# Altium integrated library Dallas Power Mgt Supervisory Circuit.IntLib: 79 symbols (part 1 of 2)
Pins are listed as number, name and electrical type; pins without a type are passive.

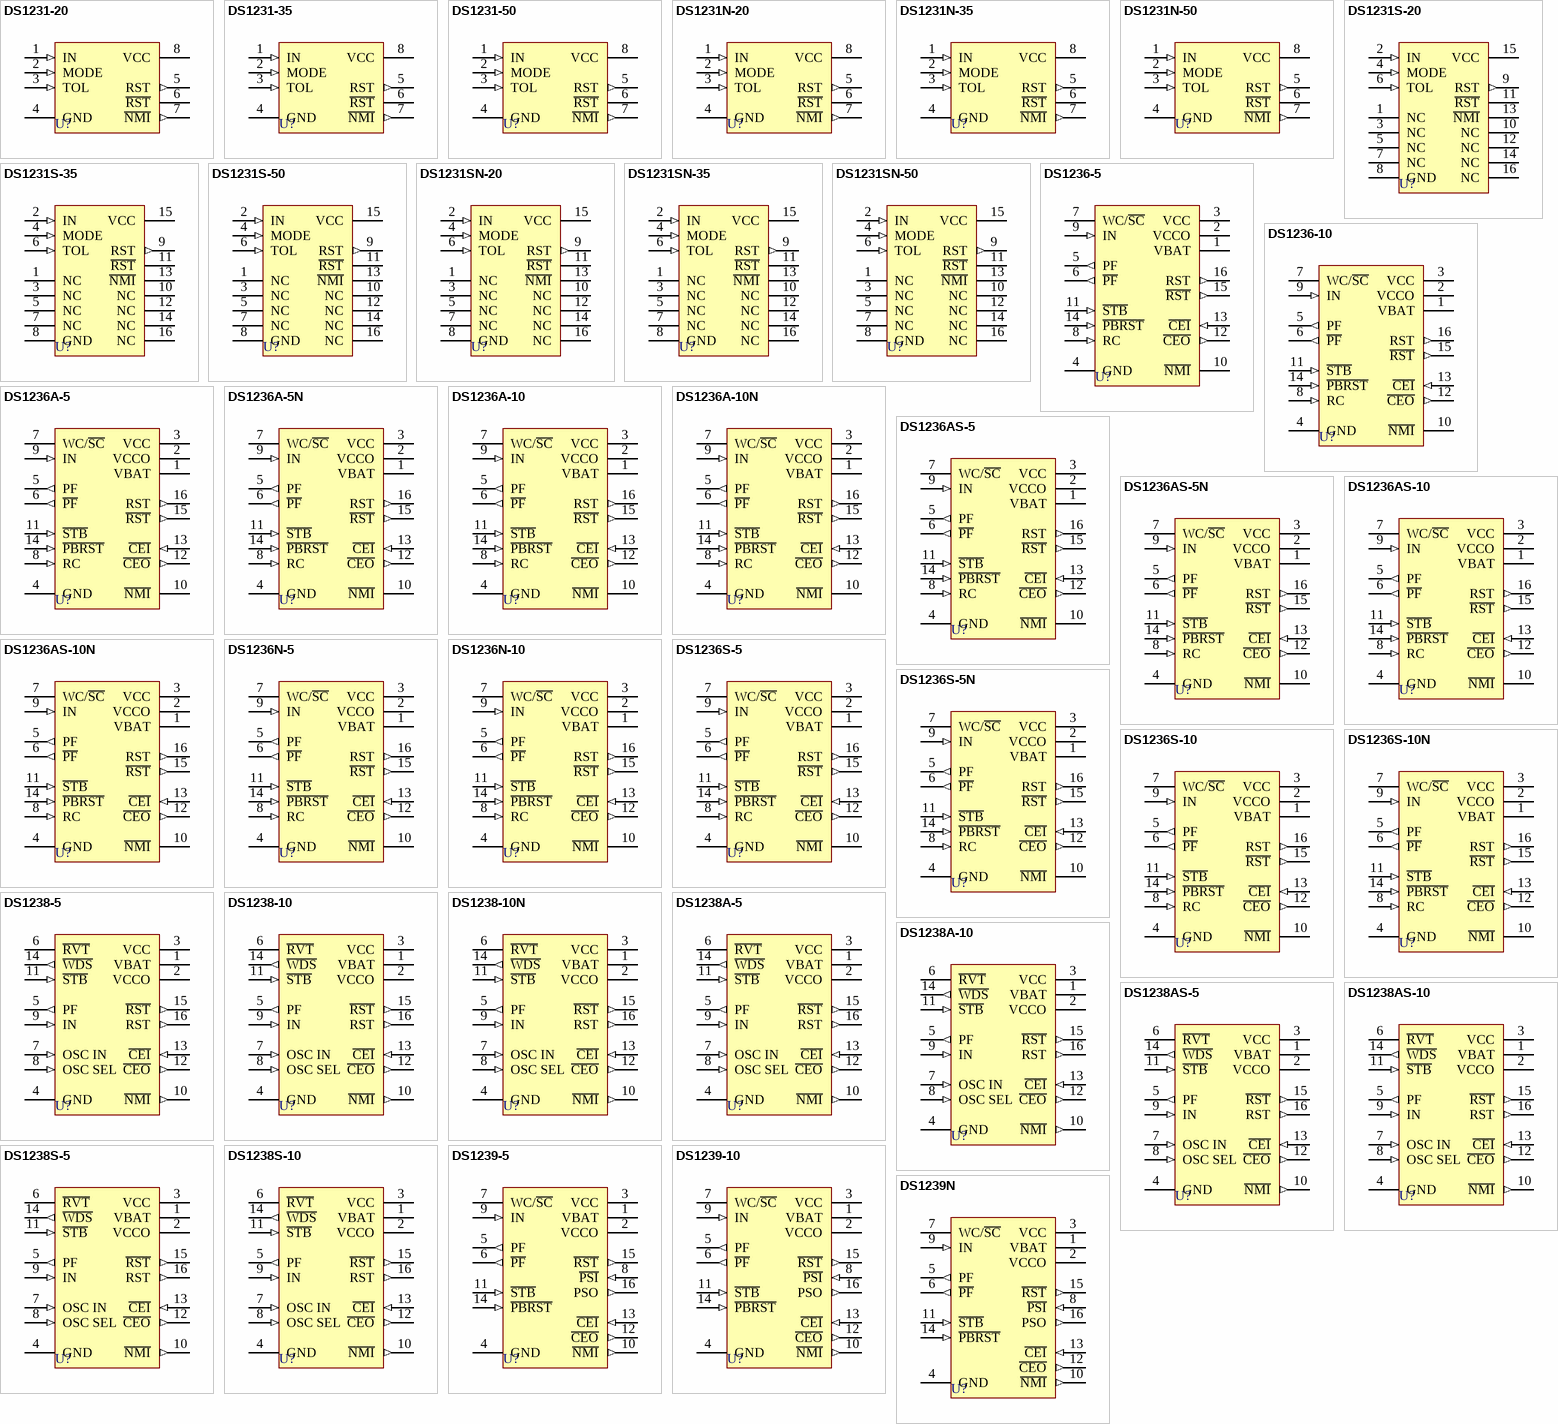
[diagram p0: symbols DS1231-20 to DS1239N]

## DS1231-20
designator U?
Power Monitor Chip; Published: 13-Oct-2000; LatestRevisionDate: 06-Jun-2005; LatestRevisionNote: Stylized 3D Model Added.; DatasheetVersion: 26-Feb-1998; PackageVersion: 1999; PackageReference: DIP8; Publisher: Altium Limited; PackageDescription: DIP; 8 Leads; Row Spacing 7.62 mm; Pitch 2.54 mm; ComponentLink1Description: Manufacturer Link; ComponentLink1URL: http://www.maxim-ic.com/; ComponentLink2Description: Datasheet; ComponentLink2URL: http://www.maxim-ic.com/getds.cfm?qv_pk=2649&ln=en
footprint DIP8 (DIP; 8 Leads; Row Spacing 7.62 mm; Pitch 2.54 mm)
3D model DIP8 (DIP; 8 Leads; Row Spacing 7.62 mm; Pitch 2.54 mm)
pins: 1 IN (in), 2 MODE (in), 3 TOL (in), 4 GND (power), 5 RST (out), 6 ~{RST} (oc), 7 ~{NMI} (out), 8 VCC (power)

## DS1231-35
designator U?
Power Monitor Chip; Published: 13-Oct-2000; LatestRevisionDate: 06-Jun-2005; LatestRevisionNote: Stylized 3D Model Added.; DatasheetVersion: 26-Feb-1998; PackageVersion: 1999; PackageReference: DIP8; Publisher: Altium Limited; PackageDescription: DIP; 8 Leads; Row Spacing 7.62 mm; Pitch 2.54 mm; ComponentLink1Description: Manufacturer Link; ComponentLink1URL: http://www.maxim-ic.com/; ComponentLink2Description: Datasheet; ComponentLink2URL: http://www.maxim-ic.com/getds.cfm?qv_pk=2649&ln=en
footprint DIP8 (DIP; 8 Leads; Row Spacing 7.62 mm; Pitch 2.54 mm)
3D model DIP8 (DIP; 8 Leads; Row Spacing 7.62 mm; Pitch 2.54 mm)
pins: 1 IN (in), 2 MODE (in), 3 TOL (in), 4 GND (power), 5 RST (out), 6 ~{RST} (oc), 7 ~{NMI} (out), 8 VCC (power)

## DS1231-50
designator U?
Power Monitor Chip; Published: 13-Oct-2000; LatestRevisionDate: 06-Jun-2005; LatestRevisionNote: Stylized 3D Model Added.; DatasheetVersion: 26-Feb-1998; PackageVersion: 1999; PackageReference: DIP8; Publisher: Altium Limited; PackageDescription: DIP; 8 Leads; Row Spacing 7.62 mm; Pitch 2.54 mm; ComponentLink1Description: Manufacturer Link; ComponentLink1URL: http://www.maxim-ic.com/; ComponentLink2Description: Datasheet; ComponentLink2URL: http://www.maxim-ic.com/getds.cfm?qv_pk=2649&ln=en
footprint DIP8 (DIP; 8 Leads; Row Spacing 7.62 mm; Pitch 2.54 mm)
3D model DIP8 (DIP; 8 Leads; Row Spacing 7.62 mm; Pitch 2.54 mm)
pins: 1 IN (in), 2 MODE (in), 3 TOL (in), 4 GND (power), 5 RST (out), 6 ~{RST} (oc), 7 ~{NMI} (out), 8 VCC (power)

## DS1231N-20
designator U?
Power Monitor Chip; Published: 13-Oct-2000; LatestRevisionDate: 06-Jun-2005; LatestRevisionNote: Stylized 3D Model Added.; DatasheetVersion: 26-Feb-1998; PackageVersion: 1999; PackageReference: DIP8; Publisher: Altium Limited; PackageDescription: DIP; 8 Leads; Row Spacing 7.62 mm; Pitch 2.54 mm; ComponentLink1Description: Manufacturer Link; ComponentLink1URL: http://www.maxim-ic.com/; ComponentLink2Description: Datasheet; ComponentLink2URL: http://www.maxim-ic.com/getds.cfm?qv_pk=2649&ln=en
footprint DIP8 (DIP; 8 Leads; Row Spacing 7.62 mm; Pitch 2.54 mm)
3D model DIP8 (DIP; 8 Leads; Row Spacing 7.62 mm; Pitch 2.54 mm)
pins: 1 IN (in), 2 MODE (in), 3 TOL (in), 4 GND (power), 5 RST (out), 6 ~{RST} (oc), 7 ~{NMI} (out), 8 VCC (power)

## DS1231N-35
designator U?
Power Monitor Chip; Published: 13-Oct-2000; LatestRevisionDate: 06-Jun-2005; LatestRevisionNote: Stylized 3D Model Added.; DatasheetVersion: 26-Feb-1998; PackageVersion: 1999; PackageReference: DIP8; Publisher: Altium Limited; PackageDescription: DIP; 8 Leads; Row Spacing 7.62 mm; Pitch 2.54 mm; ComponentLink1Description: Manufacturer Link; ComponentLink1URL: http://www.maxim-ic.com/; ComponentLink2Description: Datasheet; ComponentLink2URL: http://www.maxim-ic.com/getds.cfm?qv_pk=2649&ln=en
footprint DIP8 (DIP; 8 Leads; Row Spacing 7.62 mm; Pitch 2.54 mm)
3D model DIP8 (DIP; 8 Leads; Row Spacing 7.62 mm; Pitch 2.54 mm)
pins: 1 IN (in), 2 MODE (in), 3 TOL (in), 4 GND (power), 5 RST (out), 6 ~{RST} (oc), 7 ~{NMI} (out), 8 VCC (power)

## DS1231N-50
designator U?
Power Monitor Chip; Published: 13-Oct-2000; LatestRevisionDate: 06-Jun-2005; LatestRevisionNote: Stylized 3D Model Added.; DatasheetVersion: 26-Feb-1998; PackageVersion: 1999; PackageReference: DIP8; Publisher: Altium Limited; PackageDescription: DIP; 8 Leads; Row Spacing 7.62 mm; Pitch 2.54 mm; ComponentLink1Description: Manufacturer Link; ComponentLink1URL: http://www.maxim-ic.com/; ComponentLink2Description: Datasheet; ComponentLink2URL: http://www.maxim-ic.com/getds.cfm?qv_pk=2649&ln=en
footprint DIP8 (DIP; 8 Leads; Row Spacing 7.62 mm; Pitch 2.54 mm)
3D model DIP8 (DIP; 8 Leads; Row Spacing 7.62 mm; Pitch 2.54 mm)
pins: 1 IN (in), 2 MODE (in), 3 TOL (in), 4 GND (power), 5 RST (out), 6 ~{RST} (oc), 7 ~{NMI} (out), 8 VCC (power)

## DS1231S-20
designator U?
Power Monitor Chip; Note: Pin numbers 1, 3, 5, 7, 10, 12, 14 and 16 are Not Connected (NC); Published: 13-Oct-2000; LatestRevisionDate: 13-Apr-2006; LatestRevisionNote: IPC-7351 Footprint Added.; DatasheetVersion: 26-Feb-1998; PackageVersion: 1999; PackageReference: SOIC16W; Publisher: Altium Limited; PackageDescription: 16-Pin Small Outline Integrated Circuit 1.27 mm Pitch; ComponentLink1Description: Manufacturer Link; ComponentLink1URL: http://www.maxim-ic.com/; ComponentLink2Description: Datasheet; ComponentLink2URL: http://www.maxim-ic.com/getds.cfm?qv_pk=2649&ln=en
footprint SOIC16W_N (SOIC, 16-Leads, Body 10.3x7.5mm, Pitch 1.27mm, IPC Medium Density)
footprint SOIC16W_L (SOIC, 16-Leads, Body 10.3x7.5mm, Pitch 1.27mm, IPC High Density)
footprint SOIC16W_M (SOIC, 16-Leads, Body 10.3x7.5mm, Pitch 1.27mm, IPC Low Density)
3D model SOIC16W (16-Pin Small Outline Integrated Circuit 1.27 mm Pitch)
pins: 1 NC, 2 IN (in), 3 NC, 4 MODE (in), 5 NC, 6 TOL (in), 7 NC, 8 GND (power), 9 RST (out), 10 NC, 11 ~{RST} (oc), 12 NC, 13 ~{NMI}, 14 NC, 15 VCC (power), 16 NC

## DS1231S-35
designator U?
Power Monitor Chip; Note: Pin numbers 1, 3, 5, 7, 10, 12, 14 and 16 are Not Connected (NC); Published: 13-Oct-2000; LatestRevisionDate: 13-Apr-2006; LatestRevisionNote: IPC-7351 Footprint Added.; DatasheetVersion: 26-Feb-1998; PackageVersion: 1999; PackageReference: SOIC16W; Publisher: Altium Limited; PackageDescription: 16-Pin Small Outline Integrated Circuit 1.27 mm Pitch; ComponentLink1Description: Manufacturer Link; ComponentLink1URL: http://www.maxim-ic.com/; ComponentLink2Description: Datasheet; ComponentLink2URL: http://www.maxim-ic.com/getds.cfm?qv_pk=2649&ln=en
footprint SOIC16W_N (SOIC, 16-Leads, Body 10.3x7.5mm, Pitch 1.27mm, IPC Medium Density)
footprint SOIC16W_L (SOIC, 16-Leads, Body 10.3x7.5mm, Pitch 1.27mm, IPC High Density)
footprint SOIC16W_M (SOIC, 16-Leads, Body 10.3x7.5mm, Pitch 1.27mm, IPC Low Density)
3D model SOIC16W (16-Pin Small Outline Integrated Circuit 1.27 mm Pitch)
pins: 1 NC, 2 IN (in), 3 NC, 4 MODE (in), 5 NC, 6 TOL (in), 7 NC, 8 GND (power), 9 RST (out), 10 NC, 11 ~{RST} (oc), 12 NC, 13 ~{NMI}, 14 NC, 15 VCC (power), 16 NC

## DS1231S-50
designator U?
Power Monitor Chip; Note: Pin numbers 1, 3, 5, 7, 10, 12, 14 and 16 are Not Connected (NC); Published: 13-Oct-2000; LatestRevisionDate: 13-Apr-2006; LatestRevisionNote: IPC-7351 Footprint Added.; DatasheetVersion: 26-Feb-1998; PackageVersion: 1999; PackageReference: SOIC16W; Publisher: Altium Limited; PackageDescription: 16-Pin Small Outline Integrated Circuit 1.27 mm Pitch; ComponentLink1Description: Manufacturer Link; ComponentLink1URL: http://www.maxim-ic.com/; ComponentLink2Description: Datasheet; ComponentLink2URL: http://www.maxim-ic.com/getds.cfm?qv_pk=2649&ln=en
footprint SOIC16W_N (SOIC, 16-Leads, Body 10.3x7.5mm, Pitch 1.27mm, IPC Medium Density)
footprint SOIC16W_L (SOIC, 16-Leads, Body 10.3x7.5mm, Pitch 1.27mm, IPC High Density)
footprint SOIC16W_M (SOIC, 16-Leads, Body 10.3x7.5mm, Pitch 1.27mm, IPC Low Density)
3D model SOIC16W (16-Pin Small Outline Integrated Circuit 1.27 mm Pitch)
pins: 1 NC, 2 IN (in), 3 NC, 4 MODE (in), 5 NC, 6 TOL (in), 7 NC, 8 GND (power), 9 RST (out), 10 NC, 11 ~{RST} (oc), 12 NC, 13 ~{NMI}, 14 NC, 15 VCC (power), 16 NC

## DS1231SN-20
designator U?
Power Monitor Chip; Note: Pin numbers 1, 3, 5, 7, 10, 12, 14 and 16 are Not Connected (NC); Published: 13-Oct-2000; LatestRevisionDate: 13-Apr-2006; LatestRevisionNote: IPC-7351 Footprint Added.; DatasheetVersion: 13-Dec-1991; PackageVersion: 1994; PackageReference: SOIC16WA; Publisher: Altium Limited; PackageDescription: 16-Pin Small Outline Integrated Circuit 1.27 mm Pitch; ComponentLink1Description: Manufacturer Link; ComponentLink1URL: http://www.maxim-ic.com/; ComponentLink2Description: Datasheet; ComponentLink2URL: http://www.maxim-ic.com/getds.cfm?qv_pk=2649&ln=en
footprint SOIC16WA_N (SOIC, 16-Leads, Body 10.3x7.5mm, Pitch 1.27mm, IPC Medium Density)
footprint SOIC16WA_L (SOIC, 16-Leads, Body 10.3x7.5mm, Pitch 1.27mm, IPC High Density)
footprint SOIC16WA_M (SOIC, 16-Leads, Body 10.3x7.5mm, Pitch 1.27mm, IPC Low Density)
3D model SOIC16W (16-Pin Small Outline Integrated Circuit 1.27 mm Pitch)
pins: 1 NC, 2 IN (in), 3 NC, 4 MODE (in), 5 NC, 6 TOL (in), 7 NC, 8 GND (power), 9 RST (out), 10 NC, 11 ~{RST} (oc), 12 NC, 13 ~{NMI}, 14 NC, 15 VCC (power), 16 NC

## DS1231SN-35
designator U?
Power Monitor Chip; Note: Pin numbers 1, 3, 5, 7, 10, 12, 14 and 16 are Not Connected (NC); Published: 13-Oct-2000; LatestRevisionDate: 13-Apr-2006; LatestRevisionNote: IPC-7351 Footprint Added.; DatasheetVersion: 13-Dec-1991; PackageVersion: 1994; PackageReference: SOIC16WA; Publisher: Altium Limited; PackageDescription: 16-Pin Small Outline Integrated Circuit 1.27 mm Pitch; ComponentLink1Description: Manufacturer Link; ComponentLink1URL: http://www.maxim-ic.com/; ComponentLink2Description: Datasheet; ComponentLink2URL: http://www.maxim-ic.com/getds.cfm?qv_pk=2649&ln=en
footprint SOIC16WA_N (SOIC, 16-Leads, Body 10.3x7.5mm, Pitch 1.27mm, IPC Medium Density)
footprint SOIC16WA_L (SOIC, 16-Leads, Body 10.3x7.5mm, Pitch 1.27mm, IPC High Density)
footprint SOIC16WA_M (SOIC, 16-Leads, Body 10.3x7.5mm, Pitch 1.27mm, IPC Low Density)
3D model SOIC16W (16-Pin Small Outline Integrated Circuit 1.27 mm Pitch)
pins: 1 NC, 2 IN (in), 3 NC, 4 MODE (in), 5 NC, 6 TOL (in), 7 NC, 8 GND (power), 9 RST (out), 10 NC, 11 ~{RST} (oc), 12 NC, 13 ~{NMI}, 14 NC, 15 VCC (power), 16 NC

## DS1231SN-50
designator U?
Power Monitor Chip; Note: Pin numbers 1, 3, 5, 7, 10, 12, 14 and 16 are Not Connected (NC); Published: 13-Oct-2000; LatestRevisionDate: 13-Apr-2006; LatestRevisionNote: IPC-7351 Footprint Added.; DatasheetVersion: 13-Dec-1991; PackageVersion: 1994; PackageReference: SOIC16WA; Publisher: Altium Limited; PackageDescription: 16-Pin Small Outline Integrated Circuit 1.27 mm Pitch; ComponentLink1Description: Manufacturer Link; ComponentLink1URL: http://www.maxim-ic.com/; ComponentLink2Description: Datasheet; ComponentLink2URL: http://www.maxim-ic.com/getds.cfm?qv_pk=2649&ln=en
footprint SOIC16WA_N (SOIC, 16-Leads, Body 10.3x7.5mm, Pitch 1.27mm, IPC Medium Density)
footprint SOIC16WA_L (SOIC, 16-Leads, Body 10.3x7.5mm, Pitch 1.27mm, IPC High Density)
footprint SOIC16WA_M (SOIC, 16-Leads, Body 10.3x7.5mm, Pitch 1.27mm, IPC Low Density)
3D model SOIC16W (16-Pin Small Outline Integrated Circuit 1.27 mm Pitch)
pins: 1 NC, 2 IN (in), 3 NC, 4 MODE (in), 5 NC, 6 TOL (in), 7 NC, 8 GND (power), 9 RST (out), 10 NC, 11 ~{RST} (oc), 12 NC, 13 ~{NMI}, 14 NC, 15 VCC (power), 16 NC

## DS1236-5
designator U?
MicroManager Chip; Published: 13-Oct-2000; LatestRevisionDate: 06-Jun-2005; LatestRevisionNote: Stylized 3D Model Added.; DatasheetVersion: 26-Feb-1998; PackageVersion: 1999; PackageReference: DIP16; Publisher: Altium Limited; PackageDescription: DIP; 16 Leads; Row Spacing 7.62 mm; Pitch 2.54 mm; ComponentLink1Description: Manufacturer Link; ComponentLink1URL: http://www.maxim-ic.com/; ComponentLink2Description: Datasheet; ComponentLink2URL: http://www.maxim-ic.com/getds.cfm?qv_pk=2656&ln=en
footprint DIP16 (DIP; 16 Leads; Row Spacing 7.62 mm; Pitch 2.54 mm)
3D model DIP16 (DIP; 16 Leads; Row Spacing 7.62 mm; Pitch 2.54 mm)
pins: 1 VBAT (power), 2 VCCO (power), 3 VCC (power), 4 GND (power), 5 PF (out), 6 ~{PF} (out), 7 WC/~{SC}, 8 RC (in), 9 IN (in), 10 ~{NMI}, 11 ~{STB} (in), 12 ~{CEO} (out), 13 ~{CEI} (in), 14 ~{PBRST} (in), 15 ~{RST} (out), 16 RST (out)

## DS1236-10
designator U?
MicroManager Chip; Published: 13-Oct-2000; LatestRevisionDate: 06-Jun-2005; LatestRevisionNote: Stylized 3D Model Added.; DatasheetVersion: 26-Feb-1998; PackageVersion: 1999; PackageReference: DIP16; Publisher: Altium Limited; PackageDescription: DIP; 16 Leads; Row Spacing 7.62 mm; Pitch 2.54 mm; ComponentLink1Description: Manufacturer Link; ComponentLink1URL: http://www.maxim-ic.com/; ComponentLink2Description: Datasheet; ComponentLink2URL: http://www.maxim-ic.com/getds.cfm?qv_pk=2656&ln=en
footprint DIP16 (DIP; 16 Leads; Row Spacing 7.62 mm; Pitch 2.54 mm)
3D model DIP16 (DIP; 16 Leads; Row Spacing 7.62 mm; Pitch 2.54 mm)
pins: 1 VBAT (power), 2 VCCO (power), 3 VCC (power), 4 GND (power), 5 PF (out), 6 ~{PF} (out), 7 WC/~{SC}, 8 RC (in), 9 IN (in), 10 ~{NMI}, 11 ~{STB} (in), 12 ~{CEO} (out), 13 ~{CEI} (in), 14 ~{PBRST} (in), 15 ~{RST} (out), 16 RST (out)

## DS1236A-5
designator U?
MicroManager Chip; Published: 13-Oct-2000; LatestRevisionDate: 06-Jun-2005; LatestRevisionNote: Stylized 3D Model Added.; DatasheetVersion: 26-Feb-1998; PackageVersion: 1999; PackageReference: DIP16; Publisher: Altium Limited; PackageDescription: DIP; 16 Leads; Row Spacing 7.62 mm; Pitch 2.54 mm; ComponentLink1Description: Manufacturer Link; ComponentLink1URL: http://www.maxim-ic.com/; ComponentLink2Description: Datasheet; ComponentLink2URL: http://www.maxim-ic.com/getds.cfm?qv_pk=2657&ln=en
footprint DIP16 (DIP; 16 Leads; Row Spacing 7.62 mm; Pitch 2.54 mm)
3D model DIP16 (DIP; 16 Leads; Row Spacing 7.62 mm; Pitch 2.54 mm)
pins: 1 VBAT (power), 2 VCCO (power), 3 VCC (power), 4 GND (power), 5 PF (out), 6 ~{PF} (out), 7 WC/~{SC}, 8 RC (in), 9 IN (in), 10 ~{NMI}, 11 ~{STB} (in), 12 ~{CEO} (out), 13 ~{CEI} (in), 14 ~{PBRST} (in), 15 ~{RST} (out), 16 RST (out)

## DS1236A-5N
designator U?
MicroManager Chip; Published: 13-Oct-2000; LatestRevisionDate: 06-Jun-2005; LatestRevisionNote: Stylized 3D Model Added.; DatasheetVersion: 26-Feb-1998; PackageVersion: 1999; PackageReference: DIP16; Publisher: Altium Limited; PackageDescription: DIP; 16 Leads; Row Spacing 7.62 mm; Pitch 2.54 mm; ComponentLink1Description: Manufacturer Link; ComponentLink1URL: http://www.maxim-ic.com/; ComponentLink2Description: Datasheet; ComponentLink2URL: http://www.maxim-ic.com/getds.cfm?qv_pk=2657&ln=en
footprint DIP16 (DIP; 16 Leads; Row Spacing 7.62 mm; Pitch 2.54 mm)
3D model DIP16 (DIP; 16 Leads; Row Spacing 7.62 mm; Pitch 2.54 mm)
pins: 1 VBAT (power), 2 VCCO (power), 3 VCC (power), 4 GND (power), 5 PF (out), 6 ~{PF} (out), 7 WC/~{SC}, 8 RC (in), 9 IN (in), 10 ~{NMI}, 11 ~{STB} (in), 12 ~{CEO} (out), 13 ~{CEI} (in), 14 ~{PBRST} (in), 15 ~{RST} (out), 16 RST (out)

## DS1236A-10
designator U?
MicroManager Chip; Published: 13-Oct-2000; LatestRevisionDate: 06-Jun-2005; LatestRevisionNote: Stylized 3D Model Added.; DatasheetVersion: 26-Feb-1998; PackageVersion: 1999; PackageReference: DIP16; Publisher: Altium Limited; PackageDescription: DIP; 16 Leads; Row Spacing 7.62 mm; Pitch 2.54 mm; ComponentLink1Description: Manufacturer Link; ComponentLink1URL: http://www.maxim-ic.com/; ComponentLink2Description: Datasheet; ComponentLink2URL: http://www.maxim-ic.com/getds.cfm?qv_pk=2657&ln=en
footprint DIP16 (DIP; 16 Leads; Row Spacing 7.62 mm; Pitch 2.54 mm)
3D model DIP16 (DIP; 16 Leads; Row Spacing 7.62 mm; Pitch 2.54 mm)
pins: 1 VBAT (power), 2 VCCO (power), 3 VCC (power), 4 GND (power), 5 PF (out), 6 ~{PF} (out), 7 WC/~{SC}, 8 RC (in), 9 IN (in), 10 ~{NMI}, 11 ~{STB} (in), 12 ~{CEO} (out), 13 ~{CEI} (in), 14 ~{PBRST} (in), 15 ~{RST} (out), 16 RST (out)

## DS1236A-10N
designator U?
MicroManager Chip; Published: 13-Oct-2000; LatestRevisionDate: 06-Jun-2005; LatestRevisionNote: Stylized 3D Model Added.; DatasheetVersion: 26-Feb-1998; PackageVersion: 1999; PackageReference: DIP16; Publisher: Altium Limited; PackageDescription: DIP; 16 Leads; Row Spacing 7.62 mm; Pitch 2.54 mm; ComponentLink1Description: Manufacturer Link; ComponentLink1URL: http://www.maxim-ic.com/; ComponentLink2Description: Datasheet; ComponentLink2URL: http://www.maxim-ic.com/getds.cfm?qv_pk=2657&ln=en
footprint DIP16 (DIP; 16 Leads; Row Spacing 7.62 mm; Pitch 2.54 mm)
3D model DIP16 (DIP; 16 Leads; Row Spacing 7.62 mm; Pitch 2.54 mm)
pins: 1 VBAT (power), 2 VCCO (power), 3 VCC (power), 4 GND (power), 5 PF (out), 6 ~{PF} (out), 7 WC/~{SC}, 8 RC (in), 9 IN (in), 10 ~{NMI}, 11 ~{STB} (in), 12 ~{CEO} (out), 13 ~{CEI} (in), 14 ~{PBRST} (in), 15 ~{RST} (out), 16 RST (out)

## DS1236AS-5
designator U?
MicroManager Chip; Published: 13-Oct-2000; LatestRevisionDate: 13-Apr-2006; LatestRevisionNote: IPC-7351 Footprint Added.; DatasheetVersion: 26-Feb-1998; PackageVersion: 1999; PackageReference: SOIC16W; Publisher: Altium Limited; PackageDescription: 16-Pin Small Outline Integrated Circuit 1.27 mm Pitch; ComponentLink1Description: Manufacturer Link; ComponentLink1URL: http://www.maxim-ic.com/; ComponentLink2Description: Datasheet; ComponentLink2URL: http://www.maxim-ic.com/getds.cfm?qv_pk=2657&ln=en
footprint SOIC16W_N (SOIC, 16-Leads, Body 10.3x7.5mm, Pitch 1.27mm, IPC Medium Density)
footprint SOIC16W_L (SOIC, 16-Leads, Body 10.3x7.5mm, Pitch 1.27mm, IPC High Density)
footprint SOIC16W_M (SOIC, 16-Leads, Body 10.3x7.5mm, Pitch 1.27mm, IPC Low Density)
3D model SOIC16W (16-Pin Small Outline Integrated Circuit 1.27 mm Pitch)
pins: 1 VBAT (power), 2 VCCO (power), 3 VCC (power), 4 GND (power), 5 PF (out), 6 ~{PF} (out), 7 WC/~{SC}, 8 RC (in), 9 IN (in), 10 ~{NMI}, 11 ~{STB} (in), 12 ~{CEO} (out), 13 ~{CEI} (in), 14 ~{PBRST} (in), 15 ~{RST} (out), 16 RST (out)

## DS1236AS-5N
designator U?
MicroManager Chip; Published: 13-Oct-2000; LatestRevisionDate: 13-Apr-2006; LatestRevisionNote: IPC-7351 Footprint Added.; DatasheetVersion: 26-Feb-1998; PackageVersion: 1999; PackageReference: SOIC16W; Publisher: Altium Limited; PackageDescription: 16-Pin Small Outline Integrated Circuit 1.27 mm Pitch; ComponentLink1Description: Manufacturer Link; ComponentLink1URL: http://www.maxim-ic.com/; ComponentLink2Description: Datasheet; ComponentLink2URL: http://www.maxim-ic.com/getds.cfm?qv_pk=2657&ln=en
footprint SOIC16W_N (SOIC, 16-Leads, Body 10.3x7.5mm, Pitch 1.27mm, IPC Medium Density)
footprint SOIC16W_L (SOIC, 16-Leads, Body 10.3x7.5mm, Pitch 1.27mm, IPC High Density)
footprint SOIC16W_M (SOIC, 16-Leads, Body 10.3x7.5mm, Pitch 1.27mm, IPC Low Density)
3D model SOIC16W (16-Pin Small Outline Integrated Circuit 1.27 mm Pitch)
pins: 1 VBAT (power), 2 VCCO (power), 3 VCC (power), 4 GND (power), 5 PF (out), 6 ~{PF} (out), 7 WC/~{SC}, 8 RC (in), 9 IN (in), 10 ~{NMI}, 11 ~{STB} (in), 12 ~{CEO} (out), 13 ~{CEI} (in), 14 ~{PBRST} (in), 15 ~{RST} (out), 16 RST (out)

## DS1236AS-10
designator U?
MicroManager Chip; Published: 13-Oct-2000; LatestRevisionDate: 13-Apr-2006; LatestRevisionNote: IPC-7351 Footprint Added.; DatasheetVersion: 26-Feb-1998; PackageVersion: 1999; PackageReference: SOIC16W; Publisher: Altium Limited; PackageDescription: 16-Pin Small Outline Integrated Circuit 1.27 mm Pitch; ComponentLink1Description: Manufacturer Link; ComponentLink1URL: http://www.maxim-ic.com/; ComponentLink2Description: Datasheet; ComponentLink2URL: http://www.maxim-ic.com/getds.cfm?qv_pk=2657&ln=en
footprint SOIC16W_N (SOIC, 16-Leads, Body 10.3x7.5mm, Pitch 1.27mm, IPC Medium Density)
footprint SOIC16W_L (SOIC, 16-Leads, Body 10.3x7.5mm, Pitch 1.27mm, IPC High Density)
footprint SOIC16W_M (SOIC, 16-Leads, Body 10.3x7.5mm, Pitch 1.27mm, IPC Low Density)
3D model SOIC16W (16-Pin Small Outline Integrated Circuit 1.27 mm Pitch)
pins: 1 VBAT (power), 2 VCCO (power), 3 VCC (power), 4 GND (power), 5 PF (out), 6 ~{PF} (out), 7 WC/~{SC}, 8 RC (in), 9 IN (in), 10 ~{NMI}, 11 ~{STB} (in), 12 ~{CEO} (out), 13 ~{CEI} (in), 14 ~{PBRST} (in), 15 ~{RST} (out), 16 RST (out)

## DS1236AS-10N
designator U?
MicroManager Chip; Published: 13-Oct-2000; LatestRevisionDate: 13-Apr-2006; LatestRevisionNote: IPC-7351 Footprint Added.; DatasheetVersion: 26-Feb-1998; PackageVersion: 1999; PackageReference: SOIC16W; Publisher: Altium Limited; PackageDescription: 16-Pin Small Outline Integrated Circuit 1.27 mm Pitch; ComponentLink1Description: Manufacturer Link; ComponentLink1URL: http://www.maxim-ic.com/; ComponentLink2Description: Datasheet; ComponentLink2URL: http://www.maxim-ic.com/getds.cfm?qv_pk=2657&ln=en
footprint SOIC16W_N (SOIC, 16-Leads, Body 10.3x7.5mm, Pitch 1.27mm, IPC Medium Density)
footprint SOIC16W_L (SOIC, 16-Leads, Body 10.3x7.5mm, Pitch 1.27mm, IPC High Density)
footprint SOIC16W_M (SOIC, 16-Leads, Body 10.3x7.5mm, Pitch 1.27mm, IPC Low Density)
3D model SOIC16W (16-Pin Small Outline Integrated Circuit 1.27 mm Pitch)
pins: 1 VBAT (power), 2 VCCO (power), 3 VCC (power), 4 GND (power), 5 PF (out), 6 ~{PF} (out), 7 WC/~{SC}, 8 RC (in), 9 IN (in), 10 ~{NMI}, 11 ~{STB} (in), 12 ~{CEO} (out), 13 ~{CEI} (in), 14 ~{PBRST} (in), 15 ~{RST} (out), 16 RST (out)

## DS1236N-5
designator U?
MicroManager Chip; Published: 13-Oct-2000; LatestRevisionDate: 06-Jun-2005; LatestRevisionNote: Stylized 3D Model Added.; DatasheetVersion: 26-Feb-1998; PackageVersion: 1999; PackageReference: DIP16; Publisher: Altium Limited; PackageDescription: DIP; 16 Leads; Row Spacing 7.62 mm; Pitch 2.54 mm; ComponentLink1Description: Manufacturer Link; ComponentLink1URL: http://www.maxim-ic.com/; ComponentLink2Description: Datasheet; ComponentLink2URL: http://www.maxim-ic.com/getds.cfm?qv_pk=2656&ln=en
footprint DIP16 (DIP; 16 Leads; Row Spacing 7.62 mm; Pitch 2.54 mm)
3D model DIP16 (DIP; 16 Leads; Row Spacing 7.62 mm; Pitch 2.54 mm)
pins: 1 VBAT (power), 2 VCCO (power), 3 VCC (power), 4 GND (power), 5 PF (out), 6 ~{PF} (out), 7 WC/~{SC}, 8 RC (in), 9 IN (in), 10 ~{NMI}, 11 ~{STB} (in), 12 ~{CEO} (out), 13 ~{CEI} (in), 14 ~{PBRST} (in), 15 ~{RST} (out), 16 RST (out)

## DS1236N-10
designator U?
MicroManager Chip; Published: 13-Oct-2000; LatestRevisionDate: 06-Jun-2005; LatestRevisionNote: Stylized 3D Model Added.; DatasheetVersion: 26-Feb-1998; PackageVersion: 1999; PackageReference: DIP16; Publisher: Altium Limited; PackageDescription: DIP; 16 Leads; Row Spacing 7.62 mm; Pitch 2.54 mm; ComponentLink1Description: Manufacturer Link; ComponentLink1URL: http://www.maxim-ic.com/; ComponentLink2Description: Datasheet; ComponentLink2URL: http://www.maxim-ic.com/getds.cfm?qv_pk=2656&ln=en
footprint DIP16 (DIP; 16 Leads; Row Spacing 7.62 mm; Pitch 2.54 mm)
3D model DIP16 (DIP; 16 Leads; Row Spacing 7.62 mm; Pitch 2.54 mm)
pins: 1 VBAT (power), 2 VCCO (power), 3 VCC (power), 4 GND (power), 5 PF (out), 6 ~{PF} (out), 7 WC/~{SC}, 8 RC (in), 9 IN (in), 10 ~{NMI}, 11 ~{STB} (in), 12 ~{CEO} (out), 13 ~{CEI} (in), 14 ~{PBRST} (in), 15 ~{RST} (out), 16 RST (out)

## DS1236S-5
designator U?
MicroManager Chip; Published: 13-Oct-2000; LatestRevisionDate: 13-Apr-2006; LatestRevisionNote: IPC-7351 Footprint Added.; DatasheetVersion: 26-Feb-1998; PackageVersion: 1999; PackageReference: SOIC16W; Publisher: Altium Limited; PackageDescription: 16-Pin Small Outline Integrated Circuit 1.27 mm Pitch; ComponentLink1Description: Manufacturer Link; ComponentLink1URL: http://www.maxim-ic.com/; ComponentLink2Description: Datasheet; ComponentLink2URL: http://www.maxim-ic.com/getds.cfm?qv_pk=2656&ln=en
footprint SOIC16W_N (SOIC, 16-Leads, Body 10.3x7.5mm, Pitch 1.27mm, IPC Medium Density)
footprint SOIC16W_L (SOIC, 16-Leads, Body 10.3x7.5mm, Pitch 1.27mm, IPC High Density)
footprint SOIC16W_M (SOIC, 16-Leads, Body 10.3x7.5mm, Pitch 1.27mm, IPC Low Density)
3D model SOIC16W (16-Pin Small Outline Integrated Circuit 1.27 mm Pitch)
pins: 1 VBAT (power), 2 VCCO (power), 3 VCC (power), 4 GND (power), 5 PF (out), 6 ~{PF} (out), 7 WC/~{SC}, 8 RC (in), 9 IN (in), 10 ~{NMI}, 11 ~{STB} (in), 12 ~{CEO} (out), 13 ~{CEI} (in), 14 ~{PBRST} (in), 15 ~{RST} (out), 16 RST (out)

## DS1236S-5N
designator U?
MicroManager Chip; Published: 13-Oct-2000; LatestRevisionDate: 13-Apr-2006; LatestRevisionNote: IPC-7351 Footprint Added.; DatasheetVersion: 26-Feb-1998; PackageVersion: 1999; PackageReference: SOIC16W; Publisher: Altium Limited; PackageDescription: 16-Pin Small Outline Integrated Circuit 1.27 mm Pitch; ComponentLink1Description: Manufacturer Link; ComponentLink1URL: http://www.maxim-ic.com/; ComponentLink2Description: Datasheet; ComponentLink2URL: http://www.maxim-ic.com/getds.cfm?qv_pk=2656&ln=en
footprint SOIC16W_N (SOIC, 16-Leads, Body 10.3x7.5mm, Pitch 1.27mm, IPC Medium Density)
footprint SOIC16W_L (SOIC, 16-Leads, Body 10.3x7.5mm, Pitch 1.27mm, IPC High Density)
footprint SOIC16W_M (SOIC, 16-Leads, Body 10.3x7.5mm, Pitch 1.27mm, IPC Low Density)
3D model SOIC16W (16-Pin Small Outline Integrated Circuit 1.27 mm Pitch)
pins: 1 VBAT (power), 2 VCCO (power), 3 VCC (power), 4 GND (power), 5 PF (out), 6 ~{PF} (out), 7 WC/~{SC}, 8 RC (in), 9 IN (in), 10 ~{NMI}, 11 ~{STB} (in), 12 ~{CEO} (out), 13 ~{CEI} (in), 14 ~{PBRST} (in), 15 ~{RST} (out), 16 RST (out)

## DS1236S-10
designator U?
MicroManager Chip; Published: 13-Oct-2000; LatestRevisionDate: 13-Apr-2006; LatestRevisionNote: IPC-7351 Footprint Added.; DatasheetVersion: 26-Feb-1998; PackageVersion: 1999; PackageReference: SOIC16W; Publisher: Altium Limited; PackageDescription: 16-Pin Small Outline Integrated Circuit 1.27 mm Pitch; ComponentLink1Description: Manufacturer Link; ComponentLink1URL: http://www.maxim-ic.com/; ComponentLink2Description: Datasheet; ComponentLink2URL: http://www.maxim-ic.com/getds.cfm?qv_pk=2656&ln=en
footprint SOIC16W_N (SOIC, 16-Leads, Body 10.3x7.5mm, Pitch 1.27mm, IPC Medium Density)
footprint SOIC16W_L (SOIC, 16-Leads, Body 10.3x7.5mm, Pitch 1.27mm, IPC High Density)
footprint SOIC16W_M (SOIC, 16-Leads, Body 10.3x7.5mm, Pitch 1.27mm, IPC Low Density)
3D model SOIC16W (16-Pin Small Outline Integrated Circuit 1.27 mm Pitch)
pins: 1 VBAT (power), 2 VCCO (power), 3 VCC (power), 4 GND (power), 5 PF (out), 6 ~{PF} (out), 7 WC/~{SC}, 8 RC (in), 9 IN (in), 10 ~{NMI}, 11 ~{STB} (in), 12 ~{CEO} (out), 13 ~{CEI} (in), 14 ~{PBRST} (in), 15 ~{RST} (out), 16 RST (out)

## DS1236S-10N
designator U?
MicroManager Chip; Published: 13-Oct-2000; LatestRevisionDate: 13-Apr-2006; LatestRevisionNote: IPC-7351 Footprint Added.; DatasheetVersion: 26-Feb-1998; PackageVersion: 1999; PackageReference: SOIC16W; Publisher: Altium Limited; PackageDescription: 16-Pin Small Outline Integrated Circuit 1.27 mm Pitch; ComponentLink1Description: Manufacturer Link; ComponentLink1URL: http://www.maxim-ic.com/; ComponentLink2Description: Datasheet; ComponentLink2URL: http://www.maxim-ic.com/getds.cfm?qv_pk=2656&ln=en
footprint SOIC16W_N (SOIC, 16-Leads, Body 10.3x7.5mm, Pitch 1.27mm, IPC Medium Density)
footprint SOIC16W_L (SOIC, 16-Leads, Body 10.3x7.5mm, Pitch 1.27mm, IPC High Density)
footprint SOIC16W_M (SOIC, 16-Leads, Body 10.3x7.5mm, Pitch 1.27mm, IPC Low Density)
3D model SOIC16W (16-Pin Small Outline Integrated Circuit 1.27 mm Pitch)
pins: 1 VBAT (power), 2 VCCO (power), 3 VCC (power), 4 GND (power), 5 PF (out), 6 ~{PF} (out), 7 WC/~{SC}, 8 RC (in), 9 IN (in), 10 ~{NMI}, 11 ~{STB} (in), 12 ~{CEO} (out), 13 ~{CEI} (in), 14 ~{PBRST} (in), 15 ~{RST} (out), 16 RST (out)

## DS1238-5
designator U?
MicroManager; Published: 13-Oct-2000; LatestRevisionDate: 06-Jun-2005; LatestRevisionNote: Stylized 3D Model Added.; DatasheetVersion: 26-Feb-1998; PackageVersion: 1999; PackageReference: DIP16; Publisher: Altium Limited; PackageDescription: DIP; 16 Leads; Row Spacing 7.62 mm; Pitch 2.54 mm; ComponentLink1Description: Manufacturer Link; ComponentLink1URL: http://www.maxim-ic.com/; ComponentLink2Description: Datasheet; ComponentLink2URL: http://www.maxim-ic.com/getds.cfm?qv_pk=2658&ln=en
footprint DIP16 (DIP; 16 Leads; Row Spacing 7.62 mm; Pitch 2.54 mm)
3D model DIP16 (DIP; 16 Leads; Row Spacing 7.62 mm; Pitch 2.54 mm)
pins: 1 VBAT (power), 2 VCCO (power), 3 VCC (power), 4 GND (power), 5 PF (out), 6 ~{RVT}, 7 OSC IN (in), 8 OSC SEL (in), 9 IN (in), 10 ~{NMI} (out), 11 ~{STB} (in), 12 ~{CEO} (out), 13 ~{CEI} (in), 14 ~{WDS} (out), 15 ~{RST} (out), 16 RST (out)

## DS1238-10
designator U?
MicroManager; Published: 13-Oct-2000; LatestRevisionDate: 06-Jun-2005; LatestRevisionNote: Stylized 3D Model Added.; DatasheetVersion: 26-Feb-1998; PackageVersion: 1999; PackageReference: DIP16; Publisher: Altium Limited; PackageDescription: DIP; 16 Leads; Row Spacing 7.62 mm; Pitch 2.54 mm; ComponentLink1Description: Manufacturer Link; ComponentLink1URL: http://www.maxim-ic.com/; ComponentLink2Description: Datasheet; ComponentLink2URL: http://www.maxim-ic.com/getds.cfm?qv_pk=2658&ln=en
footprint DIP16 (DIP; 16 Leads; Row Spacing 7.62 mm; Pitch 2.54 mm)
3D model DIP16 (DIP; 16 Leads; Row Spacing 7.62 mm; Pitch 2.54 mm)
pins: 1 VBAT (power), 2 VCCO (power), 3 VCC (power), 4 GND (power), 5 PF (out), 6 ~{RVT}, 7 OSC IN (in), 8 OSC SEL (in), 9 IN (in), 10 ~{NMI} (out), 11 ~{STB} (in), 12 ~{CEO} (out), 13 ~{CEI} (in), 14 ~{WDS} (out), 15 ~{RST} (out), 16 RST (out)

## DS1238-10N
designator U?
MicroManager; Published: 13-Oct-2000; LatestRevisionDate: 06-Jun-2005; LatestRevisionNote: Stylized 3D Model Added.; DatasheetVersion: 26-Feb-1998; PackageVersion: 1999; PackageReference: DIP16; Publisher: Altium Limited; PackageDescription: DIP; 16 Leads; Row Spacing 7.62 mm; Pitch 2.54 mm; ComponentLink1Description: Manufacturer Link; ComponentLink1URL: http://www.maxim-ic.com/; ComponentLink2Description: Datasheet; ComponentLink2URL: http://www.maxim-ic.com/getds.cfm?qv_pk=2658&ln=en
footprint DIP16 (DIP; 16 Leads; Row Spacing 7.62 mm; Pitch 2.54 mm)
3D model DIP16 (DIP; 16 Leads; Row Spacing 7.62 mm; Pitch 2.54 mm)
pins: 1 VBAT (power), 2 VCCO (power), 3 VCC (power), 4 GND (power), 5 PF (out), 6 ~{RVT}, 7 OSC IN (in), 8 OSC SEL (in), 9 IN (in), 10 ~{NMI} (out), 11 ~{STB} (in), 12 ~{CEO} (out), 13 ~{CEI} (in), 14 ~{WDS} (out), 15 ~{RST} (out), 16 RST (out)

## DS1238A-5
designator U?
MicroManager; Published: 13-Oct-2000; LatestRevisionDate: 06-Jun-2005; LatestRevisionNote: Stylized 3D Model Added.; DatasheetVersion: 26-Feb-1998; PackageVersion: 1999; PackageReference: DIP16; Publisher: Altium Limited; PackageDescription: DIP; 16 Leads; Row Spacing 7.62 mm; Pitch 2.54 mm; ComponentLink1Description: Manufacturer Link; ComponentLink1URL: http://www.maxim-ic.com/; ComponentLink2Description: Datasheet; ComponentLink2URL: http://www.maxim-ic.com/getds.cfm?qv_pk=2659&ln=en
footprint DIP16 (DIP; 16 Leads; Row Spacing 7.62 mm; Pitch 2.54 mm)
3D model DIP16 (DIP; 16 Leads; Row Spacing 7.62 mm; Pitch 2.54 mm)
pins: 1 VBAT (power), 2 VCCO (power), 3 VCC (power), 4 GND (power), 5 PF (out), 6 ~{RVT}, 7 OSC IN (in), 8 OSC SEL (in), 9 IN (in), 10 ~{NMI} (out), 11 ~{STB} (in), 12 ~{CEO} (out), 13 ~{CEI} (in), 14 ~{WDS} (out), 15 ~{RST} (out), 16 RST (out)

## DS1238A-10
designator U?
MicroManager; Published: 13-Oct-2000; LatestRevisionDate: 06-Jun-2005; LatestRevisionNote: Stylized 3D Model Added.; DatasheetVersion: 26-Feb-1998; PackageVersion: 1999; PackageReference: DIP16; Publisher: Altium Limited; PackageDescription: DIP; 16 Leads; Row Spacing 7.62 mm; Pitch 2.54 mm; ComponentLink1Description: Manufacturer Link; ComponentLink1URL: http://www.maxim-ic.com/; ComponentLink2Description: Datasheet; ComponentLink2URL: http://www.maxim-ic.com/getds.cfm?qv_pk=2659&ln=en
footprint DIP16 (DIP; 16 Leads; Row Spacing 7.62 mm; Pitch 2.54 mm)
3D model DIP16 (DIP; 16 Leads; Row Spacing 7.62 mm; Pitch 2.54 mm)
pins: 1 VBAT (power), 2 VCCO (power), 3 VCC (power), 4 GND (power), 5 PF (out), 6 ~{RVT}, 7 OSC IN (in), 8 OSC SEL (in), 9 IN (in), 10 ~{NMI} (out), 11 ~{STB} (in), 12 ~{CEO} (out), 13 ~{CEI} (in), 14 ~{WDS} (out), 15 ~{RST} (out), 16 RST (out)

## DS1238AS-5
designator U?
MicroManager; Published: 13-Oct-2000; LatestRevisionDate: 13-Apr-2006; LatestRevisionNote: IPC-7351 Footprint Added.; DatasheetVersion: 26-Feb-1998; PackageVersion: 1999; PackageReference: SOIC16W; Publisher: Altium Limited; PackageDescription: 16-Pin Small Outline Integrated Circuit 1.27 mm Pitch; ComponentLink1Description: Manufacturer Link; ComponentLink1URL: http://www.maxim-ic.com/; ComponentLink2Description: Datasheet; ComponentLink2URL: http://www.maxim-ic.com/getds.cfm?qv_pk=2659&ln=en
footprint SOIC16W_N (SOIC, 16-Leads, Body 10.3x7.5mm, Pitch 1.27mm, IPC Medium Density)
footprint SOIC16W_L (SOIC, 16-Leads, Body 10.3x7.5mm, Pitch 1.27mm, IPC High Density)
footprint SOIC16W_M (SOIC, 16-Leads, Body 10.3x7.5mm, Pitch 1.27mm, IPC Low Density)
3D model SOIC16W (16-Pin Small Outline Integrated Circuit 1.27 mm Pitch)
pins: 1 VBAT (power), 2 VCCO (power), 3 VCC (power), 4 GND (power), 5 PF (out), 6 ~{RVT}, 7 OSC IN (in), 8 OSC SEL (in), 9 IN (in), 10 ~{NMI} (out), 11 ~{STB} (in), 12 ~{CEO} (out), 13 ~{CEI} (in), 14 ~{WDS} (out), 15 ~{RST} (out), 16 RST (out)

## DS1238AS-10
designator U?
MicroManager; Published: 13-Oct-2000; LatestRevisionDate: 13-Apr-2006; LatestRevisionNote: IPC-7351 Footprint Added.; DatasheetVersion: 26-Feb-1998; PackageVersion: 1999; PackageReference: SOIC16W; Publisher: Altium Limited; PackageDescription: 16-Pin Small Outline Integrated Circuit 1.27 mm Pitch; ComponentLink1Description: Manufacturer Link; ComponentLink1URL: http://www.maxim-ic.com/; ComponentLink2Description: Datasheet; ComponentLink2URL: http://www.maxim-ic.com/getds.cfm?qv_pk=2659&ln=en
footprint SOIC16W_N (SOIC, 16-Leads, Body 10.3x7.5mm, Pitch 1.27mm, IPC Medium Density)
footprint SOIC16W_L (SOIC, 16-Leads, Body 10.3x7.5mm, Pitch 1.27mm, IPC High Density)
footprint SOIC16W_M (SOIC, 16-Leads, Body 10.3x7.5mm, Pitch 1.27mm, IPC Low Density)
3D model SOIC16W (16-Pin Small Outline Integrated Circuit 1.27 mm Pitch)
pins: 1 VBAT (power), 2 VCCO (power), 3 VCC (power), 4 GND (power), 5 PF (out), 6 ~{RVT}, 7 OSC IN (in), 8 OSC SEL (in), 9 IN (in), 10 ~{NMI} (out), 11 ~{STB} (in), 12 ~{CEO} (out), 13 ~{CEI} (in), 14 ~{WDS} (out), 15 ~{RST} (out), 16 RST (out)

## DS1238S-5
designator U?
MicroManager; Published: 13-Oct-2000; LatestRevisionDate: 13-Apr-2006; LatestRevisionNote: IPC-7351 Footprint Added.; DatasheetVersion: 26-Feb-1998; PackageVersion: 1999; PackageReference: SOIC16W; Publisher: Altium Limited; PackageDescription: 16-Pin Small Outline Integrated Circuit 1.27 mm Pitch; ComponentLink1Description: Manufacturer Link; ComponentLink1URL: http://www.maxim-ic.com/; ComponentLink2Description: Datasheet; ComponentLink2URL: http://www.maxim-ic.com/getds.cfm?qv_pk=2658&ln=en
footprint SOIC16W_N (SOIC, 16-Leads, Body 10.3x7.5mm, Pitch 1.27mm, IPC Medium Density)
footprint SOIC16W_L (SOIC, 16-Leads, Body 10.3x7.5mm, Pitch 1.27mm, IPC High Density)
footprint SOIC16W_M (SOIC, 16-Leads, Body 10.3x7.5mm, Pitch 1.27mm, IPC Low Density)
3D model SOIC16W (16-Pin Small Outline Integrated Circuit 1.27 mm Pitch)
pins: 1 VBAT (power), 2 VCCO (power), 3 VCC (power), 4 GND (power), 5 PF (out), 6 ~{RVT}, 7 OSC IN (in), 8 OSC SEL (in), 9 IN (in), 10 ~{NMI} (out), 11 ~{STB} (in), 12 ~{CEO} (out), 13 ~{CEI} (in), 14 ~{WDS} (out), 15 ~{RST} (out), 16 RST (out)

## DS1238S-10
designator U?
MicroManager; Published: 13-Oct-2000; LatestRevisionDate: 13-Apr-2006; LatestRevisionNote: IPC-7351 Footprint Added.; DatasheetVersion: 26-Feb-1998; PackageVersion: 1999; PackageReference: SOIC16W; Publisher: Altium Limited; PackageDescription: 16-Pin Small Outline Integrated Circuit 1.27 mm Pitch; ComponentLink1Description: Manufacturer Link; ComponentLink1URL: http://www.maxim-ic.com/; ComponentLink2Description: Datasheet; ComponentLink2URL: http://www.maxim-ic.com/getds.cfm?qv_pk=2658&ln=en
footprint SOIC16W_N (SOIC, 16-Leads, Body 10.3x7.5mm, Pitch 1.27mm, IPC Medium Density)
footprint SOIC16W_L (SOIC, 16-Leads, Body 10.3x7.5mm, Pitch 1.27mm, IPC High Density)
footprint SOIC16W_M (SOIC, 16-Leads, Body 10.3x7.5mm, Pitch 1.27mm, IPC Low Density)
3D model SOIC16W (16-Pin Small Outline Integrated Circuit 1.27 mm Pitch)
pins: 1 VBAT (power), 2 VCCO (power), 3 VCC (power), 4 GND (power), 5 PF (out), 6 ~{RVT}, 7 OSC IN (in), 8 OSC SEL (in), 9 IN (in), 10 ~{NMI} (out), 11 ~{STB} (in), 12 ~{CEO} (out), 13 ~{CEI} (in), 14 ~{WDS} (out), 15 ~{RST} (out), 16 RST (out)

## DS1239-5
designator U?
MicroManager Chip; Published: 13-Oct-2000; LatestRevisionDate: 06-Jun-2005; LatestRevisionNote: Stylized 3D Model Added.; DatasheetVersion: 26-Feb-1998; PackageVersion: 1999; PackageReference: DIP16; Publisher: Altium Limited; PackageDescription: DIP; 16 Leads; Row Spacing 7.62 mm; Pitch 2.54 mm; ComponentLink1Description: Manufacturer Link; ComponentLink1URL: http://www.maxim-ic.com/; ComponentLink2Description: Datasheet; ComponentLink2URL: http://www.maxim-ic.com/getds.cfm?qv_pk=2660&ln=en
footprint DIP16 (DIP; 16 Leads; Row Spacing 7.62 mm; Pitch 2.54 mm)
3D model DIP16 (DIP; 16 Leads; Row Spacing 7.62 mm; Pitch 2.54 mm)
pins: 1 VBAT (power), 2 VCCO (power), 3 VCC (power), 4 GND (power), 5 PF (out), 6 ~{PF} (out), 7 WC/~{SC}, 8 ~{PSI} (in), 9 IN (in), 10 ~{NMI} (out), 11 ~{STB} (in), 12 ~{CEO} (out), 13 ~{CEI} (in), 14 ~{PBRST} (in), 15 ~{RST} (out), 16 PSO (out)

## DS1239-10
designator U?
MicroManager Chip; Published: 13-Oct-2000; LatestRevisionDate: 06-Jun-2005; LatestRevisionNote: Stylized 3D Model Added.; DatasheetVersion: 26-Feb-1998; PackageVersion: 1999; PackageReference: DIP16; Publisher: Altium Limited; PackageDescription: DIP; 16 Leads; Row Spacing 7.62 mm; Pitch 2.54 mm; ComponentLink1Description: Manufacturer Link; ComponentLink1URL: http://www.maxim-ic.com/; ComponentLink2Description: Datasheet; ComponentLink2URL: http://www.maxim-ic.com/getds.cfm?qv_pk=2660&ln=en
footprint DIP16 (DIP; 16 Leads; Row Spacing 7.62 mm; Pitch 2.54 mm)
3D model DIP16 (DIP; 16 Leads; Row Spacing 7.62 mm; Pitch 2.54 mm)
pins: 1 VBAT (power), 2 VCCO (power), 3 VCC (power), 4 GND (power), 5 PF (out), 6 ~{PF} (out), 7 WC/~{SC}, 8 ~{PSI} (in), 9 IN (in), 10 ~{NMI} (out), 11 ~{STB} (in), 12 ~{CEO} (out), 13 ~{CEI} (in), 14 ~{PBRST} (in), 15 ~{RST} (out), 16 PSO (out)

## DS1239N
designator U?
MicroManager Chip; Published: 13-Oct-2000; LatestRevisionDate: 06-Jun-2005; LatestRevisionNote: Stylized 3D Model Added.; DatasheetVersion: 8-Jan-1992; PackageVersion: 1999; PackageReference: DIP16; Publisher: Altium Limited; PackageDescription: DIP; 16 Leads; Row Spacing 7.62 mm; Pitch 2.54 mm; ComponentLink1Description: Manufacturer Link; ComponentLink1URL: http://www.maxim-ic.com/; ComponentLink2Description: Datasheet; ComponentLink2URL: http://www.maxim-ic.com/getds.cfm?qv_pk=2660&ln=en
footprint DIP16 (DIP; 16 Leads; Row Spacing 7.62 mm; Pitch 2.54 mm)
3D model DIP16 (DIP; 16 Leads; Row Spacing 7.62 mm; Pitch 2.54 mm)
pins: 1 VBAT (power), 2 VCCO (power), 3 VCC (power), 4 GND (power), 5 PF (out), 6 ~{PF} (out), 7 WC/~{SC}, 8 ~{PSI} (in), 9 IN (in), 10 ~{NMI} (out), 11 ~{STB} (in), 12 ~{CEO} (out), 13 ~{CEI} (in), 14 ~{PBRST} (in), 15 ~{RST} (out), 16 PSO (out)

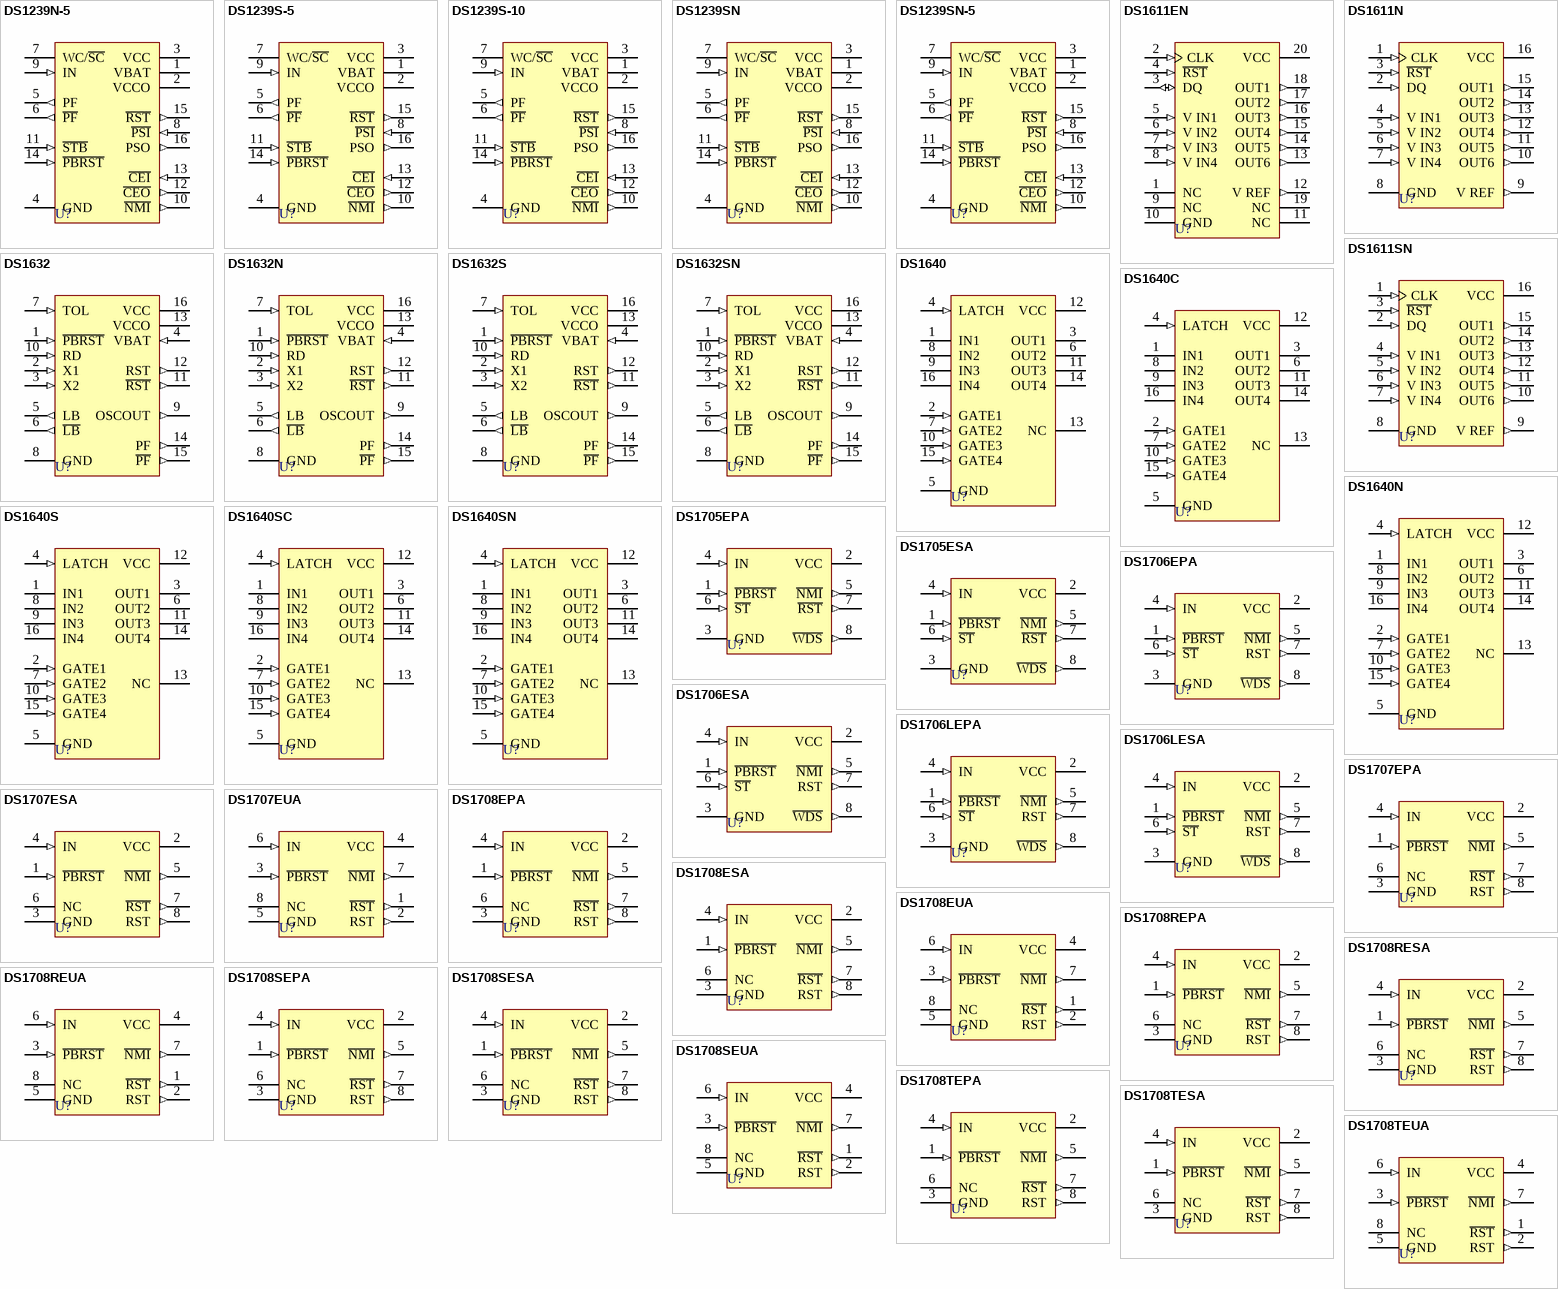
[diagram p1: symbols DS1239N-5 to DS1708TEUA]

## DS1239N-5
designator U?
MicroManager Chip; Published: 13-Oct-2000; LatestRevisionDate: 06-Jun-2005; LatestRevisionNote: Stylized 3D Model Added.; DatasheetVersion: 8-Jan-1992; PackageVersion: 1999; PackageReference: DIP16; Publisher: Altium Limited; PackageDescription: DIP; 16 Leads; Row Spacing 7.62 mm; Pitch 2.54 mm; ComponentLink1Description: Manufacturer Link; ComponentLink1URL: http://www.maxim-ic.com/; ComponentLink2Description: Datasheet; ComponentLink2URL: http://www.maxim-ic.com/getds.cfm?qv_pk=2660&ln=en
footprint DIP16 (DIP; 16 Leads; Row Spacing 7.62 mm; Pitch 2.54 mm)
3D model DIP16 (DIP; 16 Leads; Row Spacing 7.62 mm; Pitch 2.54 mm)
pins: 1 VBAT (power), 2 VCCO (power), 3 VCC (power), 4 GND (power), 5 PF (out), 6 ~{PF} (out), 7 WC/~{SC}, 8 ~{PSI} (in), 9 IN (in), 10 ~{NMI} (out), 11 ~{STB} (in), 12 ~{CEO} (out), 13 ~{CEI} (in), 14 ~{PBRST} (in), 15 ~{RST} (out), 16 PSO (out)

## DS1239S-5
designator U?
MicroManager Chip; Published: 13-Oct-2000; LatestRevisionDate: 13-Apr-2006; LatestRevisionNote: IPC-7351 Footprint Added.; DatasheetVersion: 26-Feb-1998; PackageVersion: 1999; PackageReference: SOIC16W; Publisher: Altium Limited; PackageDescription: 16-Pin Small Outline Integrated Circuit 1.27 mm Pitch; ComponentLink1Description: Manufacturer Link; ComponentLink1URL: http://www.maxim-ic.com/; ComponentLink2Description: Datasheet; ComponentLink2URL: http://www.maxim-ic.com/getds.cfm?qv_pk=2660&ln=en
footprint SOIC16W_N (SOIC, 16-Leads, Body 10.3x7.5mm, Pitch 1.27mm, IPC Medium Density)
footprint SOIC16W_L (SOIC, 16-Leads, Body 10.3x7.5mm, Pitch 1.27mm, IPC High Density)
footprint SOIC16W_M (SOIC, 16-Leads, Body 10.3x7.5mm, Pitch 1.27mm, IPC Low Density)
3D model SOIC16W (16-Pin Small Outline Integrated Circuit 1.27 mm Pitch)
pins: 1 VBAT (power), 2 VCCO (power), 3 VCC (power), 4 GND (power), 5 PF (out), 6 ~{PF} (out), 7 WC/~{SC}, 8 ~{PSI} (in), 9 IN (in), 10 ~{NMI} (out), 11 ~{STB} (in), 12 ~{CEO} (out), 13 ~{CEI} (in), 14 ~{PBRST} (in), 15 ~{RST} (out), 16 PSO (out)

## DS1239S-10
designator U?
MicroManager Chip; Published: 13-Oct-2000; LatestRevisionDate: 13-Apr-2006; LatestRevisionNote: IPC-7351 Footprint Added.; DatasheetVersion: 26-Feb-1998; PackageVersion: 1999; PackageReference: SOIC16W; Publisher: Altium Limited; PackageDescription: 16-Pin Small Outline Integrated Circuit 1.27 mm Pitch; ComponentLink1Description: Manufacturer Link; ComponentLink1URL: http://www.maxim-ic.com/; ComponentLink2Description: Datasheet; ComponentLink2URL: http://www.maxim-ic.com/getds.cfm?qv_pk=2660&ln=en
footprint SOIC16W_N (SOIC, 16-Leads, Body 10.3x7.5mm, Pitch 1.27mm, IPC Medium Density)
footprint SOIC16W_L (SOIC, 16-Leads, Body 10.3x7.5mm, Pitch 1.27mm, IPC High Density)
footprint SOIC16W_M (SOIC, 16-Leads, Body 10.3x7.5mm, Pitch 1.27mm, IPC Low Density)
3D model SOIC16W (16-Pin Small Outline Integrated Circuit 1.27 mm Pitch)
pins: 1 VBAT (power), 2 VCCO (power), 3 VCC (power), 4 GND (power), 5 PF (out), 6 ~{PF} (out), 7 WC/~{SC}, 8 ~{PSI} (in), 9 IN (in), 10 ~{NMI} (out), 11 ~{STB} (in), 12 ~{CEO} (out), 13 ~{CEI} (in), 14 ~{PBRST} (in), 15 ~{RST} (out), 16 PSO (out)

## DS1239SN
designator U?
MicroManager Chip; Published: 13-Oct-2000; LatestRevisionDate: 13-Apr-2006; LatestRevisionNote: IPC-7351 Footprint Added.; DatasheetVersion: 8-Jan-1992; PackageVersion: 1994; PackageReference: SOIC16WA; Publisher: Altium Limited; PackageDescription: 16-Pin Small Outline Integrated Circuit 1.27 mm Pitch; ComponentLink1Description: Manufacturer Link; ComponentLink1URL: http://www.maxim-ic.com/; ComponentLink2Description: Datasheet; ComponentLink2URL: http://www.maxim-ic.com/getds.cfm?qv_pk=2660&ln=en
footprint SOIC16WA_N (SOIC, 16-Leads, Body 10.3x7.5mm, Pitch 1.27mm, IPC Medium Density)
footprint SOIC16WA_L (SOIC, 16-Leads, Body 10.3x7.5mm, Pitch 1.27mm, IPC High Density)
footprint SOIC16WA_M (SOIC, 16-Leads, Body 10.3x7.5mm, Pitch 1.27mm, IPC Low Density)
3D model SOIC16W (16-Pin Small Outline Integrated Circuit 1.27 mm Pitch)
pins: 1 VBAT (power), 2 VCCO (power), 3 VCC (power), 4 GND (power), 5 PF (out), 6 ~{PF} (out), 7 WC/~{SC}, 8 ~{PSI} (in), 9 IN (in), 10 ~{NMI} (out), 11 ~{STB} (in), 12 ~{CEO} (out), 13 ~{CEI} (in), 14 ~{PBRST} (in), 15 ~{RST} (out), 16 PSO (out)

## DS1239SN-5
designator U?
MicroManager Chip; Published: 13-Oct-2000; LatestRevisionDate: 13-Apr-2006; LatestRevisionNote: IPC-7351 Footprint Added.; DatasheetVersion: 8-Jan-1992; PackageVersion: 1994; PackageReference: SOIC16WA; Publisher: Altium Limited; PackageDescription: 16-Pin Small Outline Integrated Circuit 1.27 mm Pitch; ComponentLink1Description: Manufacturer Link; ComponentLink1URL: http://www.maxim-ic.com/; ComponentLink2Description: Datasheet; ComponentLink2URL: http://www.maxim-ic.com/getds.cfm?qv_pk=2660&ln=en
footprint SOIC16WA_N (SOIC, 16-Leads, Body 10.3x7.5mm, Pitch 1.27mm, IPC Medium Density)
footprint SOIC16WA_L (SOIC, 16-Leads, Body 10.3x7.5mm, Pitch 1.27mm, IPC High Density)
footprint SOIC16WA_M (SOIC, 16-Leads, Body 10.3x7.5mm, Pitch 1.27mm, IPC Low Density)
3D model SOIC16W (16-Pin Small Outline Integrated Circuit 1.27 mm Pitch)
pins: 1 VBAT (power), 2 VCCO (power), 3 VCC (power), 4 GND (power), 5 PF (out), 6 ~{PF} (out), 7 WC/~{SC}, 8 ~{PSI} (in), 9 IN (in), 10 ~{NMI} (out), 11 ~{STB} (in), 12 ~{CEO} (out), 13 ~{CEI} (in), 14 ~{PBRST} (in), 15 ~{RST} (out), 16 PSO (out)

## DS1611EN
designator U?
Programmable System Monitor; Note: Pin numbers 1, 9, 11 and 19 are Not Connected (NC); Published: 13-Oct-2000; LatestRevisionDate: 06-Jun-2005; LatestRevisionNote: Stylized 3D Model Added.; DatasheetVersion: 8-Jun-1994; PackageReference: TSSOP20; Publisher: Altium Limited; PackageDescription: Shrink Small Outline; 20 Leads; Body Width 4.4 mm; Pitch 0.65 mm; ComponentLink1Description: Manufacturer Link; ComponentLink1URL: http://www.maxim-ic.com/
footprint TSSOP20 (Shrink Small Outline; 20 Leads; Body Width 4.4 mm; Pitch 0.65 mm)
3D model TSSOP20 (Shrink Small Outline; 20 Leads; Body Width 4.4 mm; Pitch 0.65 mm)
pins: 1 NC, 2 CLK (in), 3 DQ (io), 4 ~{RST} (in), 5 V IN1 (in), 6 V IN2 (in), 7 V IN3 (in), 8 V IN4 (in), 9 NC, 10 GND (power), 11 NC, 12 V REF (out), 13 OUT6 (out), 14 OUT5 (out), 15 OUT4 (out), 16 OUT3 (out), 17 OUT2 (out), 18 OUT1 (out), 19 NC, 20 VCC (power)

## DS1611N
designator U?
Programmable System Monitor; Published: 13-Oct-2000; LatestRevisionDate: 06-Jun-2005; LatestRevisionNote: Stylized 3D Model Added.; DatasheetVersion: 8-Jun-1994; PackageVersion: 1999; PackageReference: DIP16; Publisher: Altium Limited; PackageDescription: DIP; 16 Leads; Row Spacing 7.62 mm; Pitch 2.54 mm; ComponentLink1Description: Manufacturer Link; ComponentLink1URL: http://www.maxim-ic.com/
footprint DIP16 (DIP; 16 Leads; Row Spacing 7.62 mm; Pitch 2.54 mm)
3D model DIP16 (DIP; 16 Leads; Row Spacing 7.62 mm; Pitch 2.54 mm)
pins: 1 CLK (in), 2 DQ (in), 3 ~{RST} (in), 4 V IN1 (in), 5 V IN2 (in), 6 V IN3 (in), 7 V IN4 (in), 8 GND (power), 9 V REF (out), 10 OUT6 (out), 11 OUT5 (out), 12 OUT4 (out), 13 OUT3 (out), 14 OUT2 (out), 15 OUT1 (out), 16 VCC (power)

## DS1611SN
designator U?
Programmable System Monitor; Published: 13-Oct-2000; LatestRevisionDate: 13-Apr-2006; LatestRevisionNote: IPC-7351 Footprint Added.; DatasheetVersion: 8-Jun-1994; PackageVersion: 1994; PackageReference: SOIC16WA; Publisher: Altium Limited; PackageDescription: 16-Pin Small Outline Integrated Circuit 1.27 mm Pitch; ComponentLink1Description: Manufacturer Link; ComponentLink1URL: http://www.maxim-ic.com/
footprint SOIC16WA_N (SOIC, 16-Leads, Body 10.3x7.5mm, Pitch 1.27mm, IPC Medium Density)
footprint SOIC16WA_L (SOIC, 16-Leads, Body 10.3x7.5mm, Pitch 1.27mm, IPC High Density)
footprint SOIC16WA_M (SOIC, 16-Leads, Body 10.3x7.5mm, Pitch 1.27mm, IPC Low Density)
3D model SOIC16W (16-Pin Small Outline Integrated Circuit 1.27 mm Pitch)
pins: 1 CLK (in), 2 DQ (in), 3 ~{RST} (in), 4 V IN1 (in), 5 V IN2 (in), 6 V IN3 (in), 7 V IN4 (in), 8 GND (power), 9 V REF (out), 10 OUT6 (out), 11 OUT5 (out), 12 OUT4 (out), 13 OUT3 (out), 14 OUT2 (out), 15 OUT1 (out), 16 VCC (power)

## DS1632
designator U?
PC Power Fail and Reset Controller; Published: 13-Oct-2000; LatestRevisionDate: 06-Jun-2005; LatestRevisionNote: Stylized 3D Model Added.; DatasheetVersion: 26-Feb-1998; PackageVersion: 1999; PackageReference: DIP16; Publisher: Altium Limited; PackageDescription: DIP; 16 Leads; Row Spacing 7.62 mm; Pitch 2.54 mm; ComponentLink1Description: Manufacturer Link; ComponentLink1URL: http://www.maxim-ic.com/; ComponentLink2Description: Datasheet; ComponentLink2URL: http://pdfserv.maxim-ic.com/en/ds/DS1632.pdf
footprint DIP16 (DIP; 16 Leads; Row Spacing 7.62 mm; Pitch 2.54 mm)
3D model DIP16 (DIP; 16 Leads; Row Spacing 7.62 mm; Pitch 2.54 mm)
pins: 1 ~{PBRST} (in), 2 X1 (in), 3 X2 (in), 4 VBAT (in), 5 LB (out), 6 ~{LB} (out), 7 TOL (in), 8 GND (power), 9 OSCOUT (out), 10 RD (in), 11 ~{RST} (out), 12 RST (out), 13 VCCO (power), 14 PF (out), 15 ~{PF} (out), 16 VCC (power)

## DS1632N
designator U?
PC Power Fail and Reset Controller; Published: 13-Oct-2000; LatestRevisionDate: 06-Jun-2005; LatestRevisionNote: Stylized 3D Model Added.; DatasheetVersion: 14-Feb-1992; PackageVersion: 1999; PackageReference: DIP16; Publisher: Altium Limited; PackageDescription: DIP; 16 Leads; Row Spacing 7.62 mm; Pitch 2.54 mm; ComponentLink1Description: Manufacturer Link; ComponentLink1URL: http://www.maxim-ic.com/; ComponentLink2Description: Datasheet; ComponentLink2URL: http://pdfserv.maxim-ic.com/en/ds/DS1632_C.pdf
footprint DIP16 (DIP; 16 Leads; Row Spacing 7.62 mm; Pitch 2.54 mm)
3D model DIP16 (DIP; 16 Leads; Row Spacing 7.62 mm; Pitch 2.54 mm)
pins: 1 ~{PBRST} (in), 2 X1 (in), 3 X2 (in), 4 VBAT (in), 5 LB (out), 6 ~{LB} (out), 7 TOL (in), 8 GND (power), 9 OSCOUT (out), 10 RD (in), 11 ~{RST} (out), 12 RST (out), 13 VCCO (power), 14 PF (out), 15 ~{PF} (out), 16 VCC (power)